# EAGLE library part DMG6602SVTQ (library FSAE Electric (Alexander Ray's conflicted copy 2016-04-02))
DMG6602SVTQ-7 MOSFET N/P-CH 30V
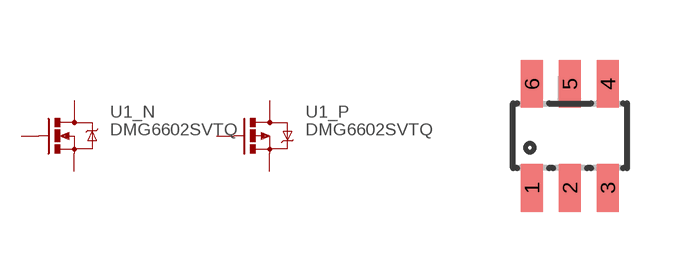
[diagram p84: symbol with the pads of SOT23-6; footprint SOT23-6]

Designator prefix U1; gates _N=MOSFET-N _P=MOSFET-P

## DMG6602SVTQ (PARTNO: DMG6602SVTQ-7)  [SOT23-6]
1  _N:G  pas
2  _P:S  pas
3  _P:G  pas
4  _P:D  pas
5  _N:S  pas
6  _N:D  pas

## Footprint SOT23-6 (pad centres in mm)
smd 0.55 x 1.2: 1 -0.95,-1.3; 2 0,-1.3; 3 0.95,-1.3; 4 0.95,1.3; 5 0,1.3; 6 -0.95,1.3